# EAGLE library part PCA9306DCT (library alvie)
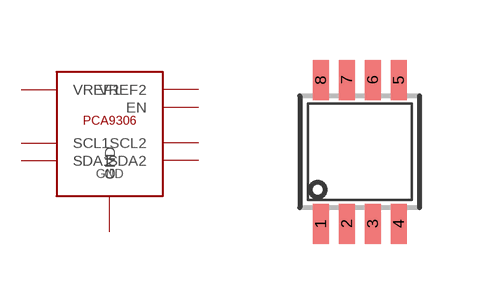
[diagram p4: symbol with the pads of SSOP08; footprint SSOP08]

Designator prefix -

## PCA9306DCT  [SSOP08]
1  GND  pwr
2  VREF1  pwr
3  SCL1
4  SDA1
5  SDA2
6  SCL2
7  VREF2  pwr
8  EN  in

## Footprint SSOP08 (pad centres in mm)
smd 0.4 x 1: 1 -0.975,-1.8; 2 -0.325,-1.8; 3 0.325,-1.8; 4 0.975,-1.8; 5 0.975,1.8; 6 0.325,1.8; 7 -0.325,1.8; 8 -0.975,1.8